# Altium schematic symbol library CRCW06034K70FKEA.SchLib: 1 symbol
Pins are listed as number, name and electrical type; pins without a type are passive.

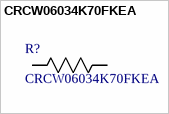
[diagram p0: symbol CRCW06034K70FKEA]

## CRCW06034K70FKEA
designator R?
D11/CRCW0603 100 4K7 1% ET1 e3; Manufacturer_Name: Vishay; Copyright: Copyright (C) 2025 Ultra Librarian. All rights reserved.; Manufacturer_Part_Number: CRCW06034K70FKEA
footprint RES_CRCW_0603
pins: 1, 2